# EAGLE library part MMA8450QR1 (library naut)
3-Axis, 8-bit/12-bit Digital Accelerometer
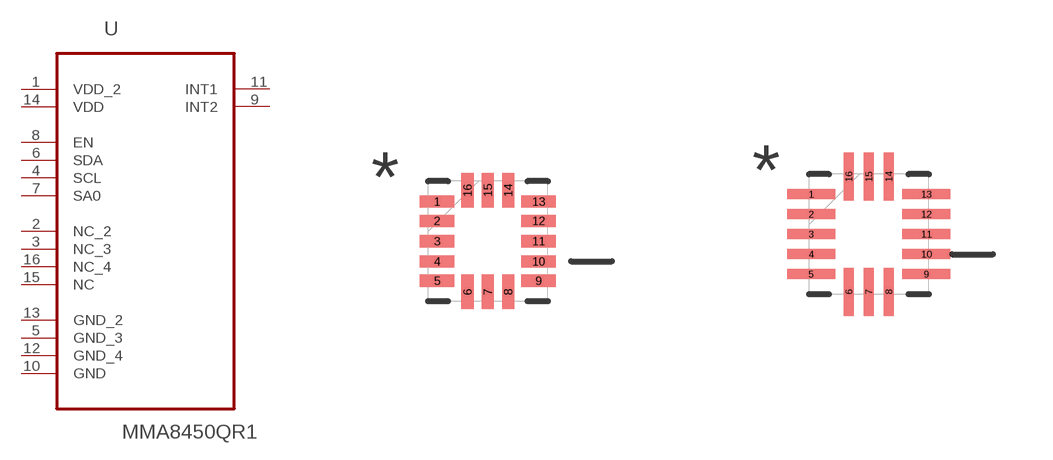
[diagram p3: symbol with the pads of QFN50P300X300X100-16N; footprints QFN50P300X300X100-16N, QFN50P300X300X100-16N-EXTRA]

Designator prefix U

## MMA8450QR1S (MPN: MMA8450QR1; OC_FARNELL: 1858712; OC_NEWARK: 65R1277; PACKAGE: QFN-16; SUPPLIER: Freescale)  [QFN50P300X300X100-16N]
1  VDD_2  pwr
2  NC_2  nc
3  NC_3  nc
4  SCL  in
5  GND_3  pas
6  SDA
7  SA0  in
8  EN  in
9  INT2  out
10  GND  pas
11  INT1  out
12  GND_4  pas
13  GND_2  pas
14  VDD  pwr
15  NC  nc
16  NC_4  nc

## MMA8450QR1L (MPN: MMA8450QR1; OC_FARNELL: 1858712; OC_NEWARK: 65R1277; PACKAGE: QFN-16; SUPPLIER: Freescale)  [QFN50P300X300X100-16N-EXTRA]
Pads as for QFN50P300X300X100-16N

## Footprint QFN50P300X300X100-16N (pad centres in mm)
smd 0.864 x 0.305: 1 -1.27,0.991; 2 -1.27,0.508; 3 -1.27,0; 4 -1.27,-0.508; 5 -1.27,-0.991; 9 1.27,-0.991; 10 1.27,-0.508; 11 1.27,0; 12 1.27,0.508; 13 1.27,0.991
smd 0.305 x 0.864: 6 -0.508,-1.27; 7 0,-1.27; 8 0.508,-1.27; 14 0.508,1.27; 15 0,1.27; 16 -0.508,1.27

## Footprint QFN50P300X300X100-16N-EXTRA (pad centres in mm)
smd 1.2 x 0.25: 1 -1.44,1; 2 -1.44,0.5; 3 -1.44,0; 4 -1.44,-0.5; 5 -1.44,-1; 9 1.44,-1; 10 1.44,-0.5; 11 1.44,0; 12 1.44,0.5; 13 1.44,1
smd 0.25 x 1.2: 6 -0.5,-1.44; 7 0,-1.44; 8 0.5,-1.44; 14 0.5,1.44; 15 0,1.44; 16 -0.5,1.44